# EAGLE library part TINY-I2C-CHAR-LCD-5V(9P-30X19.5MM) (library Seeed-OPL-Display)
104990078
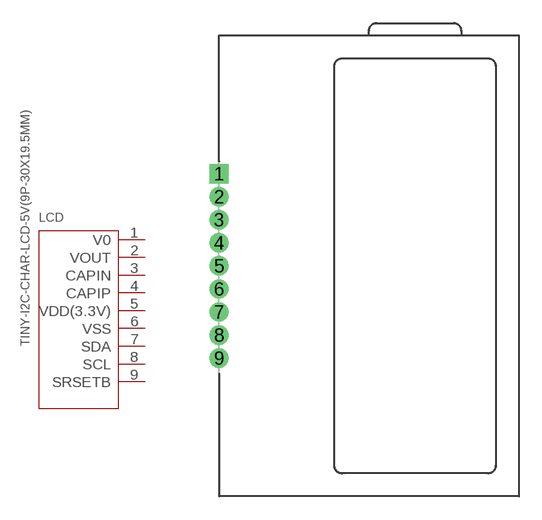
[diagram p6: symbol with the pads of LCD9-1.5-30X19.5MM; footprint LCD9-1.5-30X19.5MM]

Designator prefix LCD

## TINY-I2C-CHAR-LCD-5V(9P-30X19.5MM) (MPN: 12 LCD Breadout; VALUE: 9P 30X19.5MM)  [LCD9-1.5-30X19.5MM]
1  V0  nc
2  VOUT  sup
3  CAPIN  sup
4  CAPIP  sup
5  VDD(3.3V)  in
6  VSS  in
7  SDA  in
8  SCL  in
9  SRSETB  in

## Footprint LCD9-1.5-30X19.5MM (pad centres in mm)
drill 0.75 square: 1 0,6
drill 0.75: 2 0,4.5; 3 0,3; 4 0,1.5; 5 0,0; 6 0,-1.5; 7 0,-3; 8 0,-4.5; 9 0,-6